# EAGLE library part 776231-1 (library 776231-1)
Body Features: Connector & Keying Code 1 | Primary Product Color Black | Configuration Features: PCB Mount Orientation Vertical | Number of Positions 35 | Number of Rows 3 | Contact Features: Contact Current Rating (Max) 8 AMP | Contact Type Pin | Contact Mating Area Plating Material Tin | Housing Features: Centerline (Pitch) .157 INCH | Centerline (Pitch) 4 MM | Industry Standards: UL Flammability Rating UL 94V-0 | Mechanical Attachment: PCB Mount Retention Without | Mating Alignment With | PCB Mount Align Source: Datasheet <https://www.te.com/commerce/DocumentDelivery/DDEController?Action=srchrtrv&DocNm=1-1773979-2&DocType=Data Sheet&DocLang=English&PartCntxt=776231-1&DocFormat=pdf>
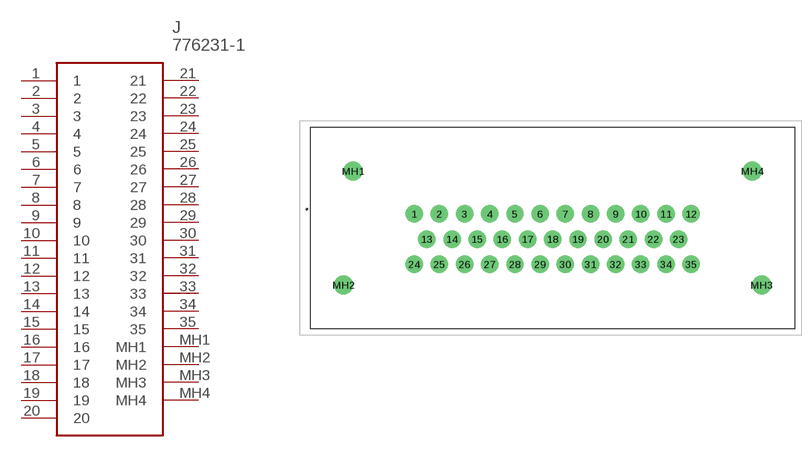
[diagram p0: symbol with the pads of 7762311; footprint 7762311]

Designator prefix J

## 776231-1 (Description: Body Features: Connector & Keying Code 1 | Primary Product Color Black | Configuration Features: PCB Mount Orientation Vertical | Number of Positions 35 | Number of Rows 3 | Contact Features: Contact Current Rating (Max) 8 AMP | Contact Type Pin | Contact Mating Area Plating Material Tin | Housing Features: Centerline (Pitch) .157 INCH | Centerline (Pitch) 4 MM | Industry Standards: UL Flammability Rating UL 94V-0 | Mechanical Attachment: PCB Mount Retention Without | Mating Alignment With | PCB Mount Align; Height: 34.25mm; Manufacturer_Name: TE Connectivity; Manufacturer_Part_Number: 776231-1; Mouser_Part_Number: 571-776231-1; Mouser_Price-Stock: https://www.mouser.co.uk/ProductDetail/TE-Connectivity/776231-1?qs=YqNA2qefETAQAJm2ankyIA%3D%3D)  [7762311]
1  1
2  2
3  3
4  4
5  5
6  6
7  7
8  8
9  9
10  10
11  11
12  12
13  13
14  14
15  15
16  16
17  17
18  18
19  19
20  20
21  21
22  22
23  23
24  24
25  25
26  26
27  27
28  28
29  29
30  30
31  31
32  32
33  33
34  34
35  35
MH1  MH1
MH2  MH2
MH3  MH3
MH4  MH4

## Footprint 7762311 (pad centres in mm)
776231-1-1
drill 1.85 pad 2.775: 1 0,0; 2 4,0; 3 8,0; 4 12,0; 5 16,0; 6 20,0; 7 24,0; 8 28,0; 9 32,0; 10 36,0; 11 40,0; 12 44,0; 13 2,-4; 14 6,-4; 15 10,-4; 16 14,-4; 17 18,-4; 18 22,-4; 19 26,-4; 20 30,-4; 21 34,-4; 22 38,-4; 23 42,-4; 24 0,-8; 25 4,-8; 26 8,-8; 27 12,-8; 28 16,-8; 29 20,-8; 30 24,-8; 31 28,-8; 32 32,-8; 33 36,-8; 34 40,-8; 35 44,-8
drill 2 pad 3: MH1 -9.7,6.8; MH2 -11.2,-11.3; MH3 55.2,-11.3; MH4 53.7,6.8